# Altium schematic symbol library TI Power Management DC-DC Controller (External Switch).SchLib: 349 symbols (part 10 of 26)
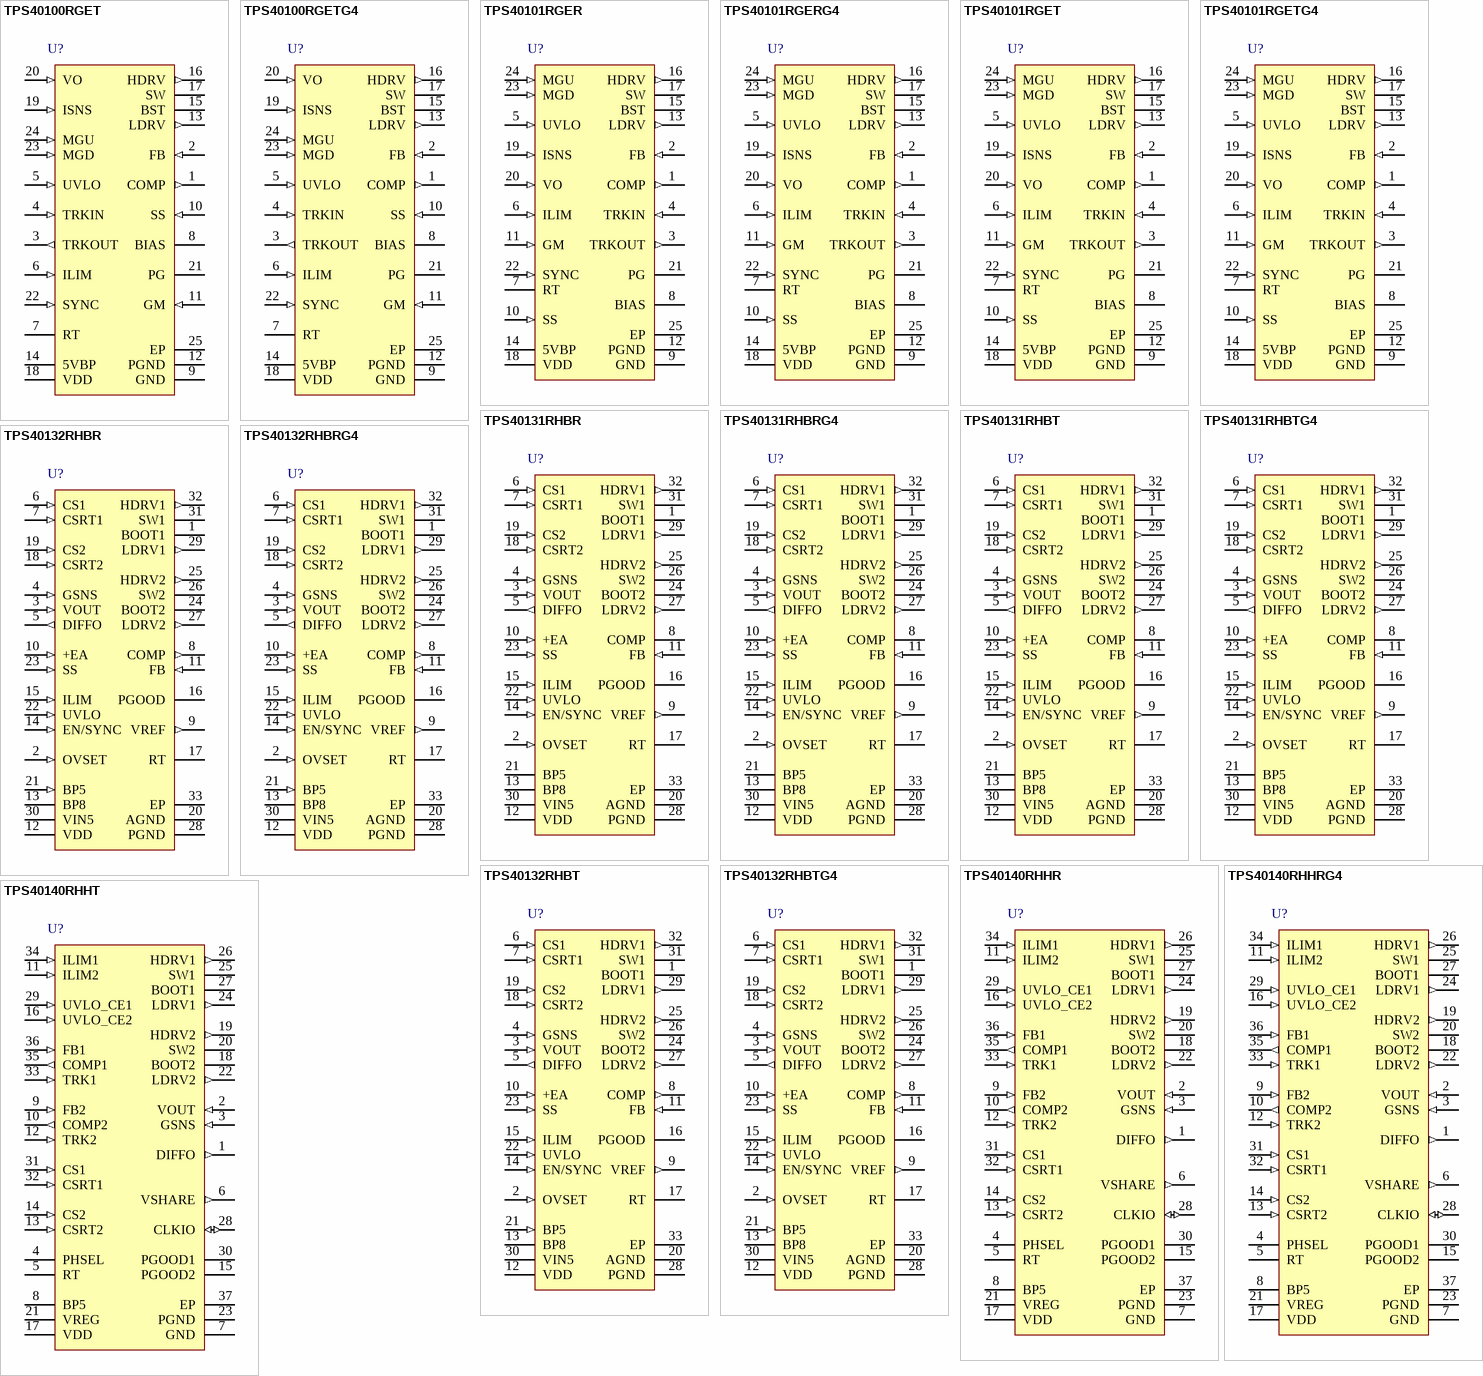
[diagram p23: symbols TPS40100RGET to TPS40140RHHT]

## TPS40131RHBR
designator U?
Two-Phase Synchronous Buck Controller with Integrated Mosfet Driver, 87.5 % Duty Cycle, 1 to 40 V, -40 to 85 degC, 32-pin QFN (RHB), Green (RoHS & no Sb/Br); Manufacturer: Texas Instruments; PartNumber: TPS40131RHBR; Duty Cycle(Max)(%): 87.5; Iout(Max)(A): 50; Regulated Outputs(#): 1; SubFamily: Step-Down Controller; Switching Frequency(Max)(kHz): 1000; Synchronous Rectification: TRUE; Topology: Buck, Multiphase"; Vin(Max)(V): 40; Vout(Max)(V): 5.8; Vout(Min)(V): 0.7; DatasheetVersion: SLVS635; PackageVersion: revD, Jun-2011; PackageReference: RHB32-3450X3450TP; PackageDescription: 32-Pin Plastic Quad Flat No-Lead, 5 x 5 mm Body, 0.5 mm Pitch, 3.45 x 3.45 mm Exposed Pad; Supplier 1: Digi-Key; Supplier Part Number 1: 296-21675-2-ND; Eco-Plan: Green (RoHS & no Sb/Br); Vin(Min)(V): 1; Mounting Technology: Surface Mount; Code_JEDEC: MO-220; ComponentLink1Description: Datasheet; ComponentLink1URL: http://www.ti.com/general/docs/lit/getliterature.tsp?genericPartNumber=TPS40131&fileType=pdf; ComponentLink2Description: Package Specification; ComponentLink2URL: http://www.ti.com/litv/pdf/mpqf130c
footprint RHB32-3450X3450TP (QFN, 32-Leads, Body 5x5mm, Pitch 0.5mm, Thermal Pad 3.45x3.45mm, TI Recommended)
pins: 1 BOOT1 (power) "Provides a bootstrapped supply for the high-side FET driver for PWM1, enabling the gate of the high-side FET to be driven above the input supply rail. Connect a capacitor from this pin to SW1 pin and a Schottky diode from (See Datasheet)", 2 OVSET (in) "A resistor divider, on this pin connected to the output voltage sets the overvoltage sense point.", 3 VOUT (in) "Non-inverting input of the differential amplifier. This pin should be connected to VOUT at the point of load.", 4 GSNS (in) "Inverting input of the differential amplifier. This pin should be connected to ground at the point of load.", 5 DIFFO (out) "Output of the differential amplifier. The voltage at this pin represents the true output voltage without IR drops that result from high-current in the PCB traces. The VOUT and GSNS pins must be connected directly at the (See Datasheet)", 6 CS1 (in) "These pins are used to sense the inductor phase current. Inductor current can be sensed with an external current sense resistor or by using an external R-C circuit and the inductor's DC resistance. The traces for these (See Datasheet)", 7 CSRT1 (in) "Return point of current sense voltage. The traces for these signals must be connected directly at the current sense element. See Layout Guidelines for more information.", 8 COMP "Output of the error amplifier. The voltage at this pin determines the duty cycle for the PWM.", 9 VREF (out) "Output of an internal reference voltage. The load may be up to 100-uA DC.", 10 +EA (in) "This is the input to the non-inverting input of the Error Amplifier. This pin is normally connected to the VREF pin and is the voltage that the feedback loop regulates to.", 11 FB (in) "Inverting input of the error amplifier. In closed loop operation, the voltage at this pin is the internal reference level of 700 mV. This pin is also used for the PGOOD and undervoltage comparators.", 12 VDD (power) "Power input for the LDO linear regulator that powers the differential amplifer and the current sense amplifiers.", 13 BP8 (power) "Output of the LDO that powers the differential amplifer and the current sense amplifiers. The voltage is approximately (VVDD -0.2 V) until the output regulates at approximately 7.5 V. Decouple this pin with a minimum (See Datasheet)", 14 EN/SYNC (in) "A logic high signal on this input enables the controller operation. A pulsing signal to this pin synchronizes the rising edge of SW to the falling edge of an external clock source.", 15 ILIM (in) "Used to set the cycle-by-cycle current limit threshold. If ILIM threshold is reached, the PWM cycle is terminated and the converter delivers limited current to the output.See the Overcurrent Protection section for more (See Datasheet)", 16 PGOOD (oc) "Power good indicator of the output voltage. This open-drain output connects to a voltage via an external resistor. When the FB pin voltage is between 0.616 V to 0.784 V (88% to 112% of VREF), the PGOOD output is in a high (See Datasheet)", 17 RT "Connecting a resistor from this pin to ground sets the oscillator frequency.", 18 CSRT2 (in) "Return point of current sense voltage. The traces for these signals must be connected directly at the current sense element. See Layout Guidelines for more information.", 19 CS2 (in) "These pins are used to sense the inductor phase current. Inductor current can be sensed with an external current sense resistor or by using an external R-C circuit and the inductor's DC resistance. The traces for these (See Datasheet)", 20 AGND (power) "Low noise ground connection to the device.", 21 BP5 (power) "Filtered input from the VIN5 pin. A 10-ohm resistor should be connected between VIN5 and BP5 and a 1.0-uF ceramic capacitor should be connected from this pin to ground.", 22 UVLO (in) "A voltage divider from VIN to this pin, set to 1V, determines the input voltage that starts the controller.", 23 SS (in) "Provides user programmable soft-start by means of a capacitor connected to the pin. If an undervoltage or over current fault is detected the soft-start capacitor cycles 7 times with no switching before a normal soft-start (See Datasheet)", 24 BOOT2 (power) "Provides a bootstrapped supply for the high-side FET driver for PWM2, enabling the gate of the high-side FET to be driven above the input supply rail. Connect a capacitor from this pin to SW2 pin and a Schottky diode from (See Datasheet)", 25 HDRV2 (out) "Gate drive output for the high-side N-channel MOSFET switch for PWM2. Output is referenced to SW2 and is bootstrapped for enhancement of the high-side switch.", 26 SW2 (power) "Connect to the switched node on converter 2. Power return for the channel 2 upper gate driver. There should be a high-current return path from the source of the upper MOSFET to this pin. It is also used by the adaptive gate (See Datasheet)", 27 LDRV2 (out) "Gate drive output for the low-side synchronous rectifier (SR) N-channel MOSFET for PWM2. See Layout Considerations section.", 28 PGND (power) "Power ground reference for the controller lower gate drivers. There should be a high-current return path from the sources of the lower MOSFETs to this pin.", 29 LDRV1 (out) "Gate drive output for the low-side synchronous rectifier (SR) N-channel MOSFET for PWM1. See Layout Considerations section.", 30 VIN5 (power) "Power input for the device. A 1.0-uF ceramic capacitor should be connected from this pin to ground.", 31 SW1 (power) "Connect to the switched node on converter 1. Power return for the channel 1 upper gate driver. There should be a high-current return path from the source of the upper MOSFET to this pin. It is also used by the adaptive gate (See Datasheet)", 32 HDRV1 (out) "Gate drive output for the high-side N-channel MOSFET switch for PWM1. Output is referenced to SW1 and is bootstrapped for enhancement of the high-side switch.", 33 EP (power) "Exposed thermal pad."

## TPS40131RHBRG4
designator U?
Two-Phase Synchronous Buck Controller with Integrated Mosfet Driver, 87.5 % Duty Cycle, 1 to 40 V, -40 to 85 degC, 32-pin QFN (RHB), Green (RoHS & no Sb/Br); Manufacturer: Texas Instruments; PartNumber: TPS40131RHBRG4; Duty Cycle(Max)(%): 87.5; Iout(Max)(A): 50; Regulated Outputs(#): 1; SubFamily: Step-Down Controller; Switching Frequency(Max)(kHz): 1000; Synchronous Rectification: TRUE; Topology: Buck, Multiphase"; Vin(Max)(V): 40; Vout(Max)(V): 5.8; Vout(Min)(V): 0.7; DatasheetVersion: SLVS635; PackageVersion: revD, Jun-2011; PackageReference: RHB32-3450X3450TP; PackageDescription: 32-Pin Plastic Quad Flat No-Lead, 5 x 5 mm Body, 0.5 mm Pitch, 3.45 x 3.45 mm Exposed Pad; Supplier 1: Digi-Key; Supplier Part Number 1: TPS40131RHBRG4-ND; Eco-Plan: Green (RoHS & no Sb/Br); Vin(Min)(V): 1; Mounting Technology: Surface Mount; Code_JEDEC: MO-220; ComponentLink1Description: Datasheet; ComponentLink1URL: http://www.ti.com/general/docs/lit/getliterature.tsp?genericPartNumber=TPS40131&fileType=pdf; ComponentLink2Description: Package Specification; ComponentLink2URL: http://www.ti.com/litv/pdf/mpqf130c
footprint RHB32-3450X3450TP (QFN, 32-Leads, Body 5x5mm, Pitch 0.5mm, Thermal Pad 3.45x3.45mm, TI Recommended)
pins: 1 BOOT1 (power) "Provides a bootstrapped supply for the high-side FET driver for PWM1, enabling the gate of the high-side FET to be driven above the input supply rail. Connect a capacitor from this pin to SW1 pin and a Schottky diode from (See Datasheet)", 2 OVSET (in) "A resistor divider, on this pin connected to the output voltage sets the overvoltage sense point.", 3 VOUT (in) "Non-inverting input of the differential amplifier. This pin should be connected to VOUT at the point of load.", 4 GSNS (in) "Inverting input of the differential amplifier. This pin should be connected to ground at the point of load.", 5 DIFFO (out) "Output of the differential amplifier. The voltage at this pin represents the true output voltage without IR drops that result from high-current in the PCB traces. The VOUT and GSNS pins must be connected directly at the (See Datasheet)", 6 CS1 (in) "These pins are used to sense the inductor phase current. Inductor current can be sensed with an external current sense resistor or by using an external R-C circuit and the inductor's DC resistance. The traces for these (See Datasheet)", 7 CSRT1 (in) "Return point of current sense voltage. The traces for these signals must be connected directly at the current sense element. See Layout Guidelines for more information.", 8 COMP "Output of the error amplifier. The voltage at this pin determines the duty cycle for the PWM.", 9 VREF (out) "Output of an internal reference voltage. The load may be up to 100-uA DC.", 10 +EA (in) "This is the input to the non-inverting input of the Error Amplifier. This pin is normally connected to the VREF pin and is the voltage that the feedback loop regulates to.", 11 FB (in) "Inverting input of the error amplifier. In closed loop operation, the voltage at this pin is the internal reference level of 700 mV. This pin is also used for the PGOOD and undervoltage comparators.", 12 VDD (power) "Power input for the LDO linear regulator that powers the differential amplifer and the current sense amplifiers.", 13 BP8 (power) "Output of the LDO that powers the differential amplifer and the current sense amplifiers. The voltage is approximately (VVDD -0.2 V) until the output regulates at approximately 7.5 V. Decouple this pin with a minimum (See Datasheet)", 14 EN/SYNC (in) "A logic high signal on this input enables the controller operation. A pulsing signal to this pin synchronizes the rising edge of SW to the falling edge of an external clock source.", 15 ILIM (in) "Used to set the cycle-by-cycle current limit threshold. If ILIM threshold is reached, the PWM cycle is terminated and the converter delivers limited current to the output.See the Overcurrent Protection section for more (See Datasheet)", 16 PGOOD (oc) "Power good indicator of the output voltage. This open-drain output connects to a voltage via an external resistor. When the FB pin voltage is between 0.616 V to 0.784 V (88% to 112% of VREF), the PGOOD output is in a high (See Datasheet)", 17 RT "Connecting a resistor from this pin to ground sets the oscillator frequency.", 18 CSRT2 (in) "Return point of current sense voltage. The traces for these signals must be connected directly at the current sense element. See Layout Guidelines for more information.", 19 CS2 (in) "These pins are used to sense the inductor phase current. Inductor current can be sensed with an external current sense resistor or by using an external R-C circuit and the inductor's DC resistance. The traces for these (See Datasheet)", 20 AGND (power) "Low noise ground connection to the device.", 21 BP5 (power) "Filtered input from the VIN5 pin. A 10-ohm resistor should be connected between VIN5 and BP5 and a 1.0-uF ceramic capacitor should be connected from this pin to ground.", 22 UVLO (in) "A voltage divider from VIN to this pin, set to 1V, determines the input voltage that starts the controller.", 23 SS (in) "Provides user programmable soft-start by means of a capacitor connected to the pin. If an undervoltage or over current fault is detected the soft-start capacitor cycles 7 times with no switching before a normal soft-start (See Datasheet)", 24 BOOT2 (power) "Provides a bootstrapped supply for the high-side FET driver for PWM2, enabling the gate of the high-side FET to be driven above the input supply rail. Connect a capacitor from this pin to SW2 pin and a Schottky diode from (See Datasheet)", 25 HDRV2 (out) "Gate drive output for the high-side N-channel MOSFET switch for PWM2. Output is referenced to SW2 and is bootstrapped for enhancement of the high-side switch.", 26 SW2 (power) "Connect to the switched node on converter 2. Power return for the channel 2 upper gate driver. There should be a high-current return path from the source of the upper MOSFET to this pin. It is also used by the adaptive gate (See Datasheet)", 27 LDRV2 (out) "Gate drive output for the low-side synchronous rectifier (SR) N-channel MOSFET for PWM2. See Layout Considerations section.", 28 PGND (power) "Power ground reference for the controller lower gate drivers. There should be a high-current return path from the sources of the lower MOSFETs to this pin.", 29 LDRV1 (out) "Gate drive output for the low-side synchronous rectifier (SR) N-channel MOSFET for PWM1. See Layout Considerations section.", 30 VIN5 (power) "Power input for the device. A 1.0-uF ceramic capacitor should be connected from this pin to ground.", 31 SW1 (power) "Connect to the switched node on converter 1. Power return for the channel 1 upper gate driver. There should be a high-current return path from the source of the upper MOSFET to this pin. It is also used by the adaptive gate (See Datasheet)", 32 HDRV1 (out) "Gate drive output for the high-side N-channel MOSFET switch for PWM1. Output is referenced to SW1 and is bootstrapped for enhancement of the high-side switch.", 33 EP (power) "Exposed thermal pad."

## TPS40131RHBT
designator U?
Two-Phase Synchronous Buck Controller with Integrated Mosfet Driver, 87.5 % Duty Cycle, 1 to 40 V, -40 to 85 degC, 32-pin QFN (RHB), Green (RoHS & no Sb/Br); Manufacturer: Texas Instruments; PartNumber: TPS40131RHBT; Duty Cycle(Max)(%): 87.5; Iout(Max)(A): 50; Regulated Outputs(#): 1; SubFamily: Step-Down Controller; Switching Frequency(Max)(kHz): 1000; Synchronous Rectification: TRUE; Topology: Buck, Multiphase"; Vin(Max)(V): 40; Vout(Max)(V): 5.8; Vout(Min)(V): 0.7; DatasheetVersion: SLVS635; PackageVersion: revD, Jun-2011; PackageReference: RHB32-3450X3450TP; PackageDescription: 32-Pin Plastic Quad Flat No-Lead, 5 x 5 mm Body, 0.5 mm Pitch, 3.45 x 3.45 mm Exposed Pad; Supplier 1: Digi-Key; Supplier Part Number 1: 296-32486-2-ND; Eco-Plan: Green (RoHS & no Sb/Br); Vin(Min)(V): 1; Mounting Technology: Surface Mount; Code_JEDEC: MO-220; ComponentLink1Description: Datasheet; ComponentLink1URL: http://www.ti.com/general/docs/lit/getliterature.tsp?genericPartNumber=TPS40131&fileType=pdf; ComponentLink2Description: Package Specification; ComponentLink2URL: http://www.ti.com/litv/pdf/mpqf130c
footprint RHB32-3450X3450TP (QFN, 32-Leads, Body 5x5mm, Pitch 0.5mm, Thermal Pad 3.45x3.45mm, TI Recommended)
pins: 1 BOOT1 (power) "Provides a bootstrapped supply for the high-side FET driver for PWM1, enabling the gate of the high-side FET to be driven above the input supply rail. Connect a capacitor from this pin to SW1 pin and a Schottky diode from (See Datasheet)", 2 OVSET (in) "A resistor divider, on this pin connected to the output voltage sets the overvoltage sense point.", 3 VOUT (in) "Non-inverting input of the differential amplifier. This pin should be connected to VOUT at the point of load.", 4 GSNS (in) "Inverting input of the differential amplifier. This pin should be connected to ground at the point of load.", 5 DIFFO (out) "Output of the differential amplifier. The voltage at this pin represents the true output voltage without IR drops that result from high-current in the PCB traces. The VOUT and GSNS pins must be connected directly at the (See Datasheet)", 6 CS1 (in) "These pins are used to sense the inductor phase current. Inductor current can be sensed with an external current sense resistor or by using an external R-C circuit and the inductor's DC resistance. The traces for these (See Datasheet)", 7 CSRT1 (in) "Return point of current sense voltage. The traces for these signals must be connected directly at the current sense element. See Layout Guidelines for more information.", 8 COMP "Output of the error amplifier. The voltage at this pin determines the duty cycle for the PWM.", 9 VREF (out) "Output of an internal reference voltage. The load may be up to 100-uA DC.", 10 +EA (in) "This is the input to the non-inverting input of the Error Amplifier. This pin is normally connected to the VREF pin and is the voltage that the feedback loop regulates to.", 11 FB (in) "Inverting input of the error amplifier. In closed loop operation, the voltage at this pin is the internal reference level of 700 mV. This pin is also used for the PGOOD and undervoltage comparators.", 12 VDD (power) "Power input for the LDO linear regulator that powers the differential amplifer and the current sense amplifiers.", 13 BP8 (power) "Output of the LDO that powers the differential amplifer and the current sense amplifiers. The voltage is approximately (VVDD -0.2 V) until the output regulates at approximately 7.5 V. Decouple this pin with a minimum (See Datasheet)", 14 EN/SYNC (in) "A logic high signal on this input enables the controller operation. A pulsing signal to this pin synchronizes the rising edge of SW to the falling edge of an external clock source.", 15 ILIM (in) "Used to set the cycle-by-cycle current limit threshold. If ILIM threshold is reached, the PWM cycle is terminated and the converter delivers limited current to the output.See the Overcurrent Protection section for more (See Datasheet)", 16 PGOOD (oc) "Power good indicator of the output voltage. This open-drain output connects to a voltage via an external resistor. When the FB pin voltage is between 0.616 V to 0.784 V (88% to 112% of VREF), the PGOOD output is in a high (See Datasheet)", 17 RT "Connecting a resistor from this pin to ground sets the oscillator frequency.", 18 CSRT2 (in) "Return point of current sense voltage. The traces for these signals must be connected directly at the current sense element. See Layout Guidelines for more information.", 19 CS2 (in) "These pins are used to sense the inductor phase current. Inductor current can be sensed with an external current sense resistor or by using an external R-C circuit and the inductor's DC resistance. The traces for these (See Datasheet)", 20 AGND (power) "Low noise ground connection to the device.", 21 BP5 (power) "Filtered input from the VIN5 pin. A 10-ohm resistor should be connected between VIN5 and BP5 and a 1.0-uF ceramic capacitor should be connected from this pin to ground.", 22 UVLO (in) "A voltage divider from VIN to this pin, set to 1V, determines the input voltage that starts the controller.", 23 SS (in) "Provides user programmable soft-start by means of a capacitor connected to the pin. If an undervoltage or over current fault is detected the soft-start capacitor cycles 7 times with no switching before a normal soft-start (See Datasheet)", 24 BOOT2 (power) "Provides a bootstrapped supply for the high-side FET driver for PWM2, enabling the gate of the high-side FET to be driven above the input supply rail. Connect a capacitor from this pin to SW2 pin and a Schottky diode from (See Datasheet)", 25 HDRV2 (out) "Gate drive output for the high-side N-channel MOSFET switch for PWM2. Output is referenced to SW2 and is bootstrapped for enhancement of the high-side switch.", 26 SW2 (power) "Connect to the switched node on converter 2. Power return for the channel 2 upper gate driver. There should be a high-current return path from the source of the upper MOSFET to this pin. It is also used by the adaptive gate (See Datasheet)", 27 LDRV2 (out) "Gate drive output for the low-side synchronous rectifier (SR) N-channel MOSFET for PWM2. See Layout Considerations section.", 28 PGND (power) "Power ground reference for the controller lower gate drivers. There should be a high-current return path from the sources of the lower MOSFETs to this pin.", 29 LDRV1 (out) "Gate drive output for the low-side synchronous rectifier (SR) N-channel MOSFET for PWM1. See Layout Considerations section.", 30 VIN5 (power) "Power input for the device. A 1.0-uF ceramic capacitor should be connected from this pin to ground.", 31 SW1 (power) "Connect to the switched node on converter 1. Power return for the channel 1 upper gate driver. There should be a high-current return path from the source of the upper MOSFET to this pin. It is also used by the adaptive gate (See Datasheet)", 32 HDRV1 (out) "Gate drive output for the high-side N-channel MOSFET switch for PWM1. Output is referenced to SW1 and is bootstrapped for enhancement of the high-side switch.", 33 EP (power) "Exposed thermal pad."

## TPS40131RHBTG4
designator U?
Two-Phase Synchronous Buck Controller with Integrated Mosfet Driver, 87.5 % Duty Cycle, 1 to 40 V, -40 to 85 degC, 32-pin QFN (RHB), Green (RoHS & no Sb/Br); Manufacturer: Texas Instruments; PartNumber: TPS40131RHBTG4; Duty Cycle(Max)(%): 87.5; Iout(Max)(A): 50; Regulated Outputs(#): 1; SubFamily: Step-Down Controller; Switching Frequency(Max)(kHz): 1000; Synchronous Rectification: TRUE; Topology: Buck, Multiphase"; Vin(Max)(V): 40; Vout(Max)(V): 5.8; Vout(Min)(V): 0.7; DatasheetVersion: SLVS635; PackageVersion: revD, Jun-2011; PackageReference: RHB32-3450X3450TP; PackageDescription: 32-Pin Plastic Quad Flat No-Lead, 5 x 5 mm Body, 0.5 mm Pitch, 3.45 x 3.45 mm Exposed Pad; Supplier 1: Digi-Key; Supplier Part Number 1: TPS40131RHBTG4-ND; Eco-Plan: Green (RoHS & no Sb/Br); Vin(Min)(V): 1; Mounting Technology: Surface Mount; Code_JEDEC: MO-220; ComponentLink1Description: Datasheet; ComponentLink1URL: http://www.ti.com/general/docs/lit/getliterature.tsp?genericPartNumber=TPS40131&fileType=pdf; ComponentLink2Description: Package Specification; ComponentLink2URL: http://www.ti.com/litv/pdf/mpqf130c
footprint RHB32-3450X3450TP (QFN, 32-Leads, Body 5x5mm, Pitch 0.5mm, Thermal Pad 3.45x3.45mm, TI Recommended)
pins: 1 BOOT1 (power) "Provides a bootstrapped supply for the high-side FET driver for PWM1, enabling the gate of the high-side FET to be driven above the input supply rail. Connect a capacitor from this pin to SW1 pin and a Schottky diode from (See Datasheet)", 2 OVSET (in) "A resistor divider, on this pin connected to the output voltage sets the overvoltage sense point.", 3 VOUT (in) "Non-inverting input of the differential amplifier. This pin should be connected to VOUT at the point of load.", 4 GSNS (in) "Inverting input of the differential amplifier. This pin should be connected to ground at the point of load.", 5 DIFFO (out) "Output of the differential amplifier. The voltage at this pin represents the true output voltage without IR drops that result from high-current in the PCB traces. The VOUT and GSNS pins must be connected directly at the (See Datasheet)", 6 CS1 (in) "These pins are used to sense the inductor phase current. Inductor current can be sensed with an external current sense resistor or by using an external R-C circuit and the inductor's DC resistance. The traces for these (See Datasheet)", 7 CSRT1 (in) "Return point of current sense voltage. The traces for these signals must be connected directly at the current sense element. See Layout Guidelines for more information.", 8 COMP "Output of the error amplifier. The voltage at this pin determines the duty cycle for the PWM.", 9 VREF (out) "Output of an internal reference voltage. The load may be up to 100-uA DC.", 10 +EA (in) "This is the input to the non-inverting input of the Error Amplifier. This pin is normally connected to the VREF pin and is the voltage that the feedback loop regulates to.", 11 FB (in) "Inverting input of the error amplifier. In closed loop operation, the voltage at this pin is the internal reference level of 700 mV. This pin is also used for the PGOOD and undervoltage comparators.", 12 VDD (power) "Power input for the LDO linear regulator that powers the differential amplifer and the current sense amplifiers.", 13 BP8 (power) "Output of the LDO that powers the differential amplifer and the current sense amplifiers. The voltage is approximately (VVDD -0.2 V) until the output regulates at approximately 7.5 V. Decouple this pin with a minimum (See Datasheet)", 14 EN/SYNC (in) "A logic high signal on this input enables the controller operation. A pulsing signal to this pin synchronizes the rising edge of SW to the falling edge of an external clock source.", 15 ILIM (in) "Used to set the cycle-by-cycle current limit threshold. If ILIM threshold is reached, the PWM cycle is terminated and the converter delivers limited current to the output.See the Overcurrent Protection section for more (See Datasheet)", 16 PGOOD (oc) "Power good indicator of the output voltage. This open-drain output connects to a voltage via an external resistor. When the FB pin voltage is between 0.616 V to 0.784 V (88% to 112% of VREF), the PGOOD output is in a high (See Datasheet)", 17 RT "Connecting a resistor from this pin to ground sets the oscillator frequency.", 18 CSRT2 (in) "Return point of current sense voltage. The traces for these signals must be connected directly at the current sense element. See Layout Guidelines for more information.", 19 CS2 (in) "These pins are used to sense the inductor phase current. Inductor current can be sensed with an external current sense resistor or by using an external R-C circuit and the inductor's DC resistance. The traces for these (See Datasheet)", 20 AGND (power) "Low noise ground connection to the device.", 21 BP5 (power) "Filtered input from the VIN5 pin. A 10-ohm resistor should be connected between VIN5 and BP5 and a 1.0-uF ceramic capacitor should be connected from this pin to ground.", 22 UVLO (in) "A voltage divider from VIN to this pin, set to 1V, determines the input voltage that starts the controller.", 23 SS (in) "Provides user programmable soft-start by means of a capacitor connected to the pin. If an undervoltage or over current fault is detected the soft-start capacitor cycles 7 times with no switching before a normal soft-start (See Datasheet)", 24 BOOT2 (power) "Provides a bootstrapped supply for the high-side FET driver for PWM2, enabling the gate of the high-side FET to be driven above the input supply rail. Connect a capacitor from this pin to SW2 pin and a Schottky diode from (See Datasheet)", 25 HDRV2 (out) "Gate drive output for the high-side N-channel MOSFET switch for PWM2. Output is referenced to SW2 and is bootstrapped for enhancement of the high-side switch.", 26 SW2 (power) "Connect to the switched node on converter 2. Power return for the channel 2 upper gate driver. There should be a high-current return path from the source of the upper MOSFET to this pin. It is also used by the adaptive gate (See Datasheet)", 27 LDRV2 (out) "Gate drive output for the low-side synchronous rectifier (SR) N-channel MOSFET for PWM2. See Layout Considerations section.", 28 PGND (power) "Power ground reference for the controller lower gate drivers. There should be a high-current return path from the sources of the lower MOSFETs to this pin.", 29 LDRV1 (out) "Gate drive output for the low-side synchronous rectifier (SR) N-channel MOSFET for PWM1. See Layout Considerations section.", 30 VIN5 (power) "Power input for the device. A 1.0-uF ceramic capacitor should be connected from this pin to ground.", 31 SW1 (power) "Connect to the switched node on converter 1. Power return for the channel 1 upper gate driver. There should be a high-current return path from the source of the upper MOSFET to this pin. It is also used by the adaptive gate (See Datasheet)", 32 HDRV1 (out) "Gate drive output for the high-side N-channel MOSFET switch for PWM1. Output is referenced to SW1 and is bootstrapped for enhancement of the high-side switch.", 33 EP (power) "Exposed thermal pad."

## TPS40132RHBR
designator U?
Two Channel Multiphase Controller with 600 mV, .8 % Reference, 87.5 % Duty Cycle, 1 to 40 V, -40 to 85 degC, 32-pin QFN (RHB), Green (RoHS & no Sb/Br); Manufacturer: Texas Instruments; PartNumber: TPS40132RHBR; Duty Cycle(Max)(%): 87.5; Iout(Max)(A): 40; Regulated Outputs(#): 1; SubFamily: Step-Down Controller; Switching Frequency(Max)(kHz): 1000; Synchronous Rectification: TRUE; Vout(Max)(V): 5.8; Vout(Min)(V): 0.6; DatasheetVersion: SLUS776B; PackageVersion: revD, Jun-2011; PackageReference: RHB32-3450X3450TP; PackageDescription: 32-Pin Plastic Quad Flat No-Lead, 5 x 5 mm Body, 0.5 mm Pitch, 3.45 x 3.45 mm Exposed Pad; Supplier 1: Digi-Key; Supplier Part Number 1: TPS40132RHBR-ND; Eco-Plan: Green (RoHS & no Sb/Br); Topology: Multiphase; Vin(Max)(V): 40; Vin(Min)(V): 1; Mounting Technology: Surface Mount; Code_JEDEC: MO-220; ComponentLink1Description: Datasheet; ComponentLink1URL: http://www.ti.com/general/docs/lit/getliterature.tsp?genericPartNumber=TPS40132&fileType=pdf; ComponentLink2Description: Package Specification; ComponentLink2URL: http://www.ti.com/litv/pdf/mpqf130c
footprint RHB32-3450X3450TP (QFN, 32-Leads, Body 5x5mm, Pitch 0.5mm, Thermal Pad 3.45x3.45mm, TI Recommended)
pins: 1 BOOT1 (power) "Provides a bootstrapped supply for the high-side FET driver for PWM1, enabling the gate of the high-side FET to be driven above the input supply rail. Connect a capacitor from this pin to SW1 pin and a Schottky diode from (See Datasheet)", 2 OVSET (in) "A resistor divider, on this pin connected to the output voltage sets the overvoltage sense point.", 3 VOUT (in) "Non-inverting input of the differential amplifier. This pin should be connected to VOUT at the point of load.", 4 GSNS (in) "Inverting input of the differential amplifier. This pin should be connected to ground at the point of load.", 5 DIFFO (out) "Output of the differential amplifier. The voltage at this pin represents the true output voltage without IR drops that result from high-current in the PCB traces. The VOUT and GSNS pins must be connected directly at the (See Datasheet)", 6 CS1 (in) "These pins are used to sense the inductor phase current. Inductor current can be sensed with an external current sense resistor or by using an external R-C circuit and the inductor's DC resistance. The traces for these (See Datasheet)", 7 CSRT1 (in) "Return point of current sense voltage. The traces for these signals must be connected directly at the current sense element. See Layout Guidelines for more information.", 8 COMP (out) "Output of the error amplifier. The voltage at this pin determines the duty cycle for the PWM.", 9 VREF (out) "Output of an internal reference voltage. The load may be up to 100-uA DC.", 10 +EA (in) "This is the input to the non-inverting input of the Error Amplifier. This pin is normally connected to the VREF pin and is the voltage that the feedback loop regulates to.", 11 FB (in) "Inverting input of the error amplifier. In closed loop operation, the voltage at this pin is the internal reference level of 600 mV. This pin is also used for the PGOOD and undervoltage comparators.", 12 VDD (power) "Power input for the LDO linear regulator that powers the differential amplifier and the current sense amplifiers.", 13 BP8 (power) "Output of the LDO that powers the differential amplifier and the current sense amplifiers. The voltage is approximately (VVDD -0.2 V) until the output regulates at approximately 7.5 V. Decouple this pin with a minimum (See Datasheet)", 14 EN/SYNC (in) "A logic high signal on this input enables the controller operation. A pulsing signal to this pin synchronizes the rising edge of SW to the falling edge of an external clock source.", 15 ILIM (in) "Used to set the cycle-by-cycle current limit threshold. If ILIM threshold is reached, the PWM cycle is terminated and the converter delivers limited current to the output. The relationship between ILIM and the maximum phase (See Datasheet)", 16 PGOOD (hiz) "Power good indicator of the output voltage. This open-drain output connects to a voltage via an external resistor. When the FB pin voltage is between 93% and 107% of VREF, the PGOOD output is in a high impedance state.", 17 RT "Connecting a resistor from this pin to ground sets the oscillator frequency.", 18 CSRT2 (in) "Return point of current sense voltage. The traces for these signals must be connected directly at the current sense element. See Layout Guidelines for more information.", 19 CS2 (in) "These pins are used to sense the inductor phase current. Inductor current can be sensed with an external current sense resistor or by using an external R-C circuit and the inductor's DC resistance. The traces for these (See Datasheet)", 20 AGND (power) "Low noise ground connection to the device.", 21 BP5 (in) "Filtered input from the VIN5 pin. A 10-ohm resistor should be connected between VIN5 and BP5 and a 1.0-uF ceramic capacitor should be connected from this pin to ground.", 22 UVLO (in) "A voltage divider from VIN to this pin, set to 1V, determines the input voltage that starts the controller.", 23 SS (in) "Provides user programmable soft-start by means of a capacitor connected to the pin. If an undervoltage or over current fault is detected the soft-start capacitor cycles 7 times with no switching before a normal soft-start (See Datasheet)", 24 BOOT2 (power) "Provides a bootstrapped supply for the high-side FET driver for PWM2, enabling the gate of the high-side FET to be driven above the input supply rail. Connect a capacitor from this pin to SW2 pin and a Schottky diode from (See Datasheet)", 25 HDRV2 (out) "Gate drive output for the high-side N-channel MOSFET switch for PWM2. Output is referenced to SW2 and is bootstrapped for enhancement of the high-side switch.", 26 SW2 (power) "Connect to the switched node on converter 2. Power return for the channel 2 upper gate driver. There should be a high-current return path from the source of the upper MOSFET to this pin. It is also used by the adaptive gate (See Datasheet)", 27 LDRV2 (out) "Gate drive output for the low-side synchronous rectifier (SR) N-channel MOSFET for PWM2. See Layout Considerations section.", 28 PGND (power) "Power ground reference for the controller lower gate drivers. There should be a high-current return path from the sources of the lower MOSFETs to this pin.", 29 LDRV1 (out) "Gate drive output for the low-side synchronous rectifier (SR) N-channel MOSFET for PWM1. See Layout Considerations section.", 30 VIN5 (power) "Power input for the device. A 1.0-uF ceramic capacitor should be connected from this pin to ground.", 31 SW1 (power) "Connect to the switched node on converter 1. Power return for the channel 1 upper gate driver. There should be a high-current return path from the source of the upper MOSFET to this pin. It is also used by the adaptive gate (See Datasheet)", 32 HDRV1 (out) "Gate drive output for the high-side N-channel MOSFET switch for PWM1. Output is referenced to SW1 and is bootstrapped for enhancement of the high-side switch.", 33 EP (power) "Exposed pad."

## TPS40132RHBRG4
designator U?
Two Channel Multiphase Controller with 600 mV, 8 % Reference, 87.5 % Duty Cycle, 1 to 40 V, -40 to 85 degC, 32-pin QFN (RHB), Green (RoHS & no Sb/Br); Manufacturer: Texas Instruments; PartNumber: TPS40132RHBRG4; Duty Cycle(Max)(%): 87.5; Iout(Max)(A): 40; Regulated Outputs(#): 1; SubFamily: Step-Down Controller; Switching Frequency(Max)(kHz): 1000; Synchronous Rectification: TRUE; Vout(Max)(V): 5.8; Vout(Min)(V): 0.6; DatasheetVersion: SLUS776B; PackageVersion: revD, Jun-2011; PackageReference: RHB32-3450X3450TP; PackageDescription: 32-Pin Plastic Quad Flat No-Lead, 5 x 5 mm Body, 0.5 mm Pitch, 3.45 x 3.45 mm Exposed Pad; Supplier 1: Digi-Key; Supplier Part Number 1: TPS40132RHBRG4-ND; Eco-Plan: Green (RoHS & no Sb/Br); Topology: Multiphase; Vin(Max)(V): 40; Vin(Min)(V): 1; Mounting Technology: Surface Mount; Code_JEDEC: MO-220; ComponentLink1Description: Datasheet; ComponentLink1URL: http://www.ti.com/general/docs/lit/getliterature.tsp?genericPartNumber=TPS40132&fileType=pdf; ComponentLink2Description: Package Specification; ComponentLink2URL: http://www.ti.com/litv/pdf/mpqf130c
footprint RHB32-3450X3450TP (QFN, 32-Leads, Body 5x5mm, Pitch 0.5mm, Thermal Pad 3.45x3.45mm, TI Recommended)
pins: 1 BOOT1 (power) "Provides a bootstrapped supply for the high-side FET driver for PWM1, enabling the gate of the high-side FET to be driven above the input supply rail. Connect a capacitor from this pin to SW1 pin and a Schottky diode from (See Datasheet)", 2 OVSET (in) "A resistor divider, on this pin connected to the output voltage sets the overvoltage sense point.", 3 VOUT (in) "Non-inverting input of the differential amplifier. This pin should be connected to VOUT at the point of load.", 4 GSNS (in) "Inverting input of the differential amplifier. This pin should be connected to ground at the point of load.", 5 DIFFO (out) "Output of the differential amplifier. The voltage at this pin represents the true output voltage without IR drops that result from high-current in the PCB traces. The VOUT and GSNS pins must be connected directly at the (See Datasheet)", 6 CS1 (in) "These pins are used to sense the inductor phase current. Inductor current can be sensed with an external current sense resistor or by using an external R-C circuit and the inductor's DC resistance. The traces for these (See Datasheet)", 7 CSRT1 (in) "Return point of current sense voltage. The traces for these signals must be connected directly at the current sense element. See Layout Guidelines for more information.", 8 COMP (out) "Output of the error amplifier. The voltage at this pin determines the duty cycle for the PWM.", 9 VREF (out) "Output of an internal reference voltage. The load may be up to 100-uA DC.", 10 +EA (in) "This is the input to the non-inverting input of the Error Amplifier. This pin is normally connected to the VREF pin and is the voltage that the feedback loop regulates to.", 11 FB (in) "Inverting input of the error amplifier. In closed loop operation, the voltage at this pin is the internal reference level of 600 mV. This pin is also used for the PGOOD and undervoltage comparators.", 12 VDD (power) "Power input for the LDO linear regulator that powers the differential amplifier and the current sense amplifiers.", 13 BP8 (power) "Output of the LDO that powers the differential amplifier and the current sense amplifiers. The voltage is approximately (VVDD -0.2 V) until the output regulates at approximately 7.5 V. Decouple this pin with a minimum (See Datasheet)", 14 EN/SYNC (in) "A logic high signal on this input enables the controller operation. A pulsing signal to this pin synchronizes the rising edge of SW to the falling edge of an external clock source.", 15 ILIM (in) "Used to set the cycle-by-cycle current limit threshold. If ILIM threshold is reached, the PWM cycle is terminated and the converter delivers limited current to the output. The relationship between ILIM and the maximum phase (See Datasheet)", 16 PGOOD (hiz) "Power good indicator of the output voltage. This open-drain output connects to a voltage via an external resistor. When the FB pin voltage is between 93% and 107% of VREF, the PGOOD output is in a high impedance state.", 17 RT "Connecting a resistor from this pin to ground sets the oscillator frequency.", 18 CSRT2 (in) "Return point of current sense voltage. The traces for these signals must be connected directly at the current sense element. See Layout Guidelines for more information.", 19 CS2 (in) "These pins are used to sense the inductor phase current. Inductor current can be sensed with an external current sense resistor or by using an external R-C circuit and the inductor's DC resistance. The traces for these (See Datasheet)", 20 AGND (power) "Low noise ground connection to the device.", 21 BP5 (in) "Filtered input from the VIN5 pin. A 10-ohm resistor should be connected between VIN5 and BP5 and a 1.0-uF ceramic capacitor should be connected from this pin to ground.", 22 UVLO (in) "A voltage divider from VIN to this pin, set to 1V, determines the input voltage that starts the controller.", 23 SS (in) "Provides user programmable soft-start by means of a capacitor connected to the pin. If an undervoltage or over current fault is detected the soft-start capacitor cycles 7 times with no switching before a normal soft-start (See Datasheet)", 24 BOOT2 (power) "Provides a bootstrapped supply for the high-side FET driver for PWM2, enabling the gate of the high-side FET to be driven above the input supply rail. Connect a capacitor from this pin to SW2 pin and a Schottky diode from (See Datasheet)", 25 HDRV2 (out) "Gate drive output for the high-side N-channel MOSFET switch for PWM2. Output is referenced to SW2 and is bootstrapped for enhancement of the high-side switch.", 26 SW2 (power) "Connect to the switched node on converter 2. Power return for the channel 2 upper gate driver. There should be a high-current return path from the source of the upper MOSFET to this pin. It is also used by the adaptive gate (See Datasheet)", 27 LDRV2 (out) "Gate drive output for the low-side synchronous rectifier (SR) N-channel MOSFET for PWM2. See Layout Considerations section.", 28 PGND (power) "Power ground reference for the controller lower gate drivers. There should be a high-current return path from the sources of the lower MOSFETs to this pin.", 29 LDRV1 (out) "Gate drive output for the low-side synchronous rectifier (SR) N-channel MOSFET for PWM1. See Layout Considerations section.", 30 VIN5 (power) "Power input for the device. A 1.0-uF ceramic capacitor should be connected from this pin to ground.", 31 SW1 (power) "Connect to the switched node on converter 1. Power return for the channel 1 upper gate driver. There should be a high-current return path from the source of the upper MOSFET to this pin. It is also used by the adaptive gate (See Datasheet)", 32 HDRV1 (out) "Gate drive output for the high-side N-channel MOSFET switch for PWM1. Output is referenced to SW1 and is bootstrapped for enhancement of the high-side switch.", 33 EP (power) "Exposed pad."

## TPS40132RHBT
designator U?
Two Channel Multiphase Controller with 600 mV, .8 % Reference, 87.5 % Duty Cycle, 1 to 40 V, -40 to 85 degC, 32-pin QFN (RHB), Green (RoHS & no Sb/Br); Manufacturer: Texas Instruments; PartNumber: TPS40132RHBT; Duty Cycle(Max)(%): 87.5; Iout(Max)(A): 40; Regulated Outputs(#): 1; SubFamily: Step-Down Controller; Switching Frequency(Max)(kHz): 1000; Synchronous Rectification: TRUE; Vout(Max)(V): 5.8; Vout(Min)(V): 0.6; DatasheetVersion: SLUS776B; PackageVersion: revD, Jun-2011; PackageReference: RHB32-3450X3450TP; PackageDescription: 32-Pin Plastic Quad Flat No-Lead, 5 x 5 mm Body, 0.5 mm Pitch, 3.45 x 3.45 mm Exposed Pad; Supplier 1: Digi-Key; Supplier Part Number 1: 296-23328-2-ND; Eco-Plan: Green (RoHS & no Sb/Br); Topology: Multiphase; Vin(Max)(V): 40; Vin(Min)(V): 1; Mounting Technology: Surface Mount; Code_JEDEC: MO-220; ComponentLink1Description: Datasheet; ComponentLink1URL: http://www.ti.com/general/docs/lit/getliterature.tsp?genericPartNumber=TPS40132&fileType=pdf; ComponentLink2Description: Package Specification; ComponentLink2URL: http://www.ti.com/litv/pdf/mpqf130c
footprint RHB32-3450X3450TP (QFN, 32-Leads, Body 5x5mm, Pitch 0.5mm, Thermal Pad 3.45x3.45mm, TI Recommended)
pins: 1 BOOT1 (power) "Provides a bootstrapped supply for the high-side FET driver for PWM1, enabling the gate of the high-side FET to be driven above the input supply rail. Connect a capacitor from this pin to SW1 pin and a Schottky diode from (See Datasheet)", 2 OVSET (in) "A resistor divider, on this pin connected to the output voltage sets the overvoltage sense point.", 3 VOUT (in) "Non-inverting input of the differential amplifier. This pin should be connected to VOUT at the point of load.", 4 GSNS (in) "Inverting input of the differential amplifier. This pin should be connected to ground at the point of load.", 5 DIFFO (out) "Output of the differential amplifier. The voltage at this pin represents the true output voltage without IR drops that result from high-current in the PCB traces. The VOUT and GSNS pins must be connected directly at the (See Datasheet)", 6 CS1 (in) "These pins are used to sense the inductor phase current. Inductor current can be sensed with an external current sense resistor or by using an external R-C circuit and the inductor's DC resistance. The traces for these (See Datasheet)", 7 CSRT1 (in) "Return point of current sense voltage. The traces for these signals must be connected directly at the current sense element. See Layout Guidelines for more information.", 8 COMP (out) "Output of the error amplifier. The voltage at this pin determines the duty cycle for the PWM.", 9 VREF (out) "Output of an internal reference voltage. The load may be up to 100-uA DC.", 10 +EA (in) "This is the input to the non-inverting input of the Error Amplifier. This pin is normally connected to the VREF pin and is the voltage that the feedback loop regulates to.", 11 FB (in) "Inverting input of the error amplifier. In closed loop operation, the voltage at this pin is the internal reference level of 600 mV. This pin is also used for the PGOOD and undervoltage comparators.", 12 VDD (power) "Power input for the LDO linear regulator that powers the differential amplifier and the current sense amplifiers.", 13 BP8 (power) "Output of the LDO that powers the differential amplifier and the current sense amplifiers. The voltage is approximately (VVDD -0.2 V) until the output regulates at approximately 7.5 V. Decouple this pin with a minimum (See Datasheet)", 14 EN/SYNC (in) "A logic high signal on this input enables the controller operation. A pulsing signal to this pin synchronizes the rising edge of SW to the falling edge of an external clock source.", 15 ILIM (in) "Used to set the cycle-by-cycle current limit threshold. If ILIM threshold is reached, the PWM cycle is terminated and the converter delivers limited current to the output. The relationship between ILIM and the maximum phase (See Datasheet)", 16 PGOOD (hiz) "Power good indicator of the output voltage. This open-drain output connects to a voltage via an external resistor. When the FB pin voltage is between 93% and 107% of VREF, the PGOOD output is in a high impedance state.", 17 RT "Connecting a resistor from this pin to ground sets the oscillator frequency.", 18 CSRT2 (in) "Return point of current sense voltage. The traces for these signals must be connected directly at the current sense element. See Layout Guidelines for more information.", 19 CS2 (in) "These pins are used to sense the inductor phase current. Inductor current can be sensed with an external current sense resistor or by using an external R-C circuit and the inductor's DC resistance. The traces for these (See Datasheet)", 20 AGND (power) "Low noise ground connection to the device.", 21 BP5 (in) "Filtered input from the VIN5 pin. A 10-ohm resistor should be connected between VIN5 and BP5 and a 1.0-uF ceramic capacitor should be connected from this pin to ground.", 22 UVLO (in) "A voltage divider from VIN to this pin, set to 1V, determines the input voltage that starts the controller.", 23 SS (in) "Provides user programmable soft-start by means of a capacitor connected to the pin. If an undervoltage or over current fault is detected the soft-start capacitor cycles 7 times with no switching before a normal soft-start (See Datasheet)", 24 BOOT2 (power) "Provides a bootstrapped supply for the high-side FET driver for PWM2, enabling the gate of the high-side FET to be driven above the input supply rail. Connect a capacitor from this pin to SW2 pin and a Schottky diode from (See Datasheet)", 25 HDRV2 (out) "Gate drive output for the high-side N-channel MOSFET switch for PWM2. Output is referenced to SW2 and is bootstrapped for enhancement of the high-side switch.", 26 SW2 (power) "Connect to the switched node on converter 2. Power return for the channel 2 upper gate driver. There should be a high-current return path from the source of the upper MOSFET to this pin. It is also used by the adaptive gate (See Datasheet)", 27 LDRV2 (out) "Gate drive output for the low-side synchronous rectifier (SR) N-channel MOSFET for PWM2. See Layout Considerations section.", 28 PGND (power) "Power ground reference for the controller lower gate drivers. There should be a high-current return path from the sources of the lower MOSFETs to this pin.", 29 LDRV1 (out) "Gate drive output for the low-side synchronous rectifier (SR) N-channel MOSFET for PWM1. See Layout Considerations section.", 30 VIN5 (power) "Power input for the device. A 1.0-uF ceramic capacitor should be connected from this pin to ground.", 31 SW1 (power) "Connect to the switched node on converter 1. Power return for the channel 1 upper gate driver. There should be a high-current return path from the source of the upper MOSFET to this pin. It is also used by the adaptive gate (See Datasheet)", 32 HDRV1 (out) "Gate drive output for the high-side N-channel MOSFET switch for PWM1. Output is referenced to SW1 and is bootstrapped for enhancement of the high-side switch.", 33 EP (power) "Exposed pad."